# EAGLE library part CC2640F128RHBR (library Capstone Library)
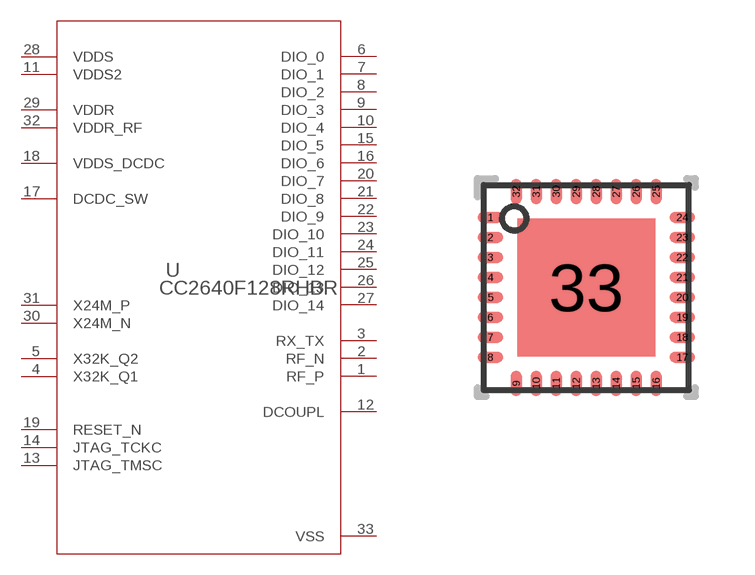
[diagram p8: symbol with the pads of RHB0032E; footprint RHB0032E]

Designator prefix U

## CC2640F128RHBR (ALTERNATEPARTNUMBER: CC2640F128RHBT; COMPTYPE: IC; MANUFACTURER: Texas Instruments; MOUNTTYPE: SMT; PACKAGEREFERENCE: RHB0032E; PARTNUMBER: CC2640F128RHBR; PIN_COUNT: 33; REFDES: RefDes; ROHS: Y; TYPE: TYPE; VALUE: Value)  [RHB0032E]
1  RF_P
2  RF_N
3  RX_TX
4  X32K_Q1
5  X32K_Q2
6  DIO_0
7  DIO_1
8  DIO_2
9  DIO_3
10  DIO_4
11  VDDS2  pwr
12  DCOUPL  pwr
13  JTAG_TMSC
14  JTAG_TCKC
15  DIO_5
16  DIO_6
17  DCDC_SW  pwr
18  VDDS_DCDC  pwr
19  RESET_N  in
20  DIO_7
21  DIO_8
22  DIO_9
23  DIO_10
24  DIO_11
25  DIO_12
26  DIO_13
27  DIO_14
28  VDDS  pwr
29  VDDR  pwr
30  X24M_N
31  X24M_P
32  VDDR_RF  pwr
33  VSS  pwr

## Footprint RHB0032E (pad centres in mm)
smd 0.65 x 0.28: 1 -2.4,1.75; 2 -2.4,1.25; 3 -2.4,0.75; 4 -2.4,0.25; 5 -2.4,-0.25; 6 -2.4,-0.75; 7 -2.4,-1.25; 8 -2.4,-1.75; 17 2.4,-1.75; 18 2.4,-1.25; 19 2.4,-0.75; 20 2.4,-0.25; 21 2.4,0.25; 22 2.4,0.75; 23 2.4,1.25; 24 2.4,1.75
smd 0.28 x 0.65: 9 -1.75,-2.4; 10 -1.25,-2.4; 11 -0.75,-2.4; 12 -0.25,-2.4; 13 0.25,-2.4; 14 0.75,-2.4; 15 1.25,-2.4; 16 1.75,-2.4; 25 1.75,2.4; 26 1.25,2.4; 27 0.75,2.4; 28 0.25,2.4; 29 -0.25,2.4; 30 -0.75,2.4; 31 -1.25,2.4; 32 -1.75,2.4
smd 3.454 x 3.454: 33 0,0